# Altium schematic symbol library Schlib1.SchLib: 2 symbols
Pins are listed as number, name and electrical type; pins without a type are passive.

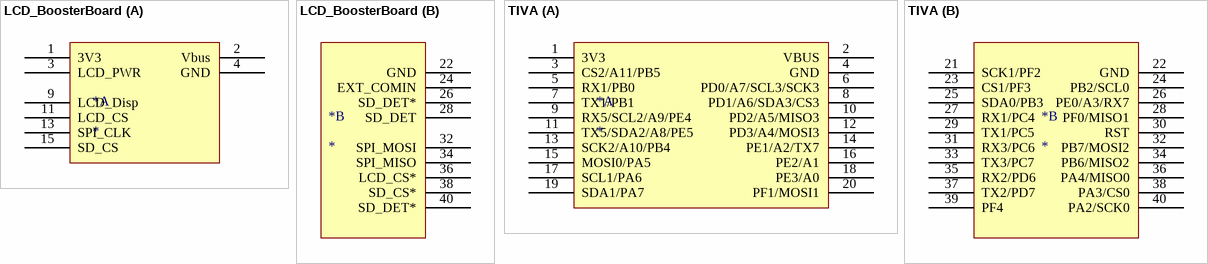
[diagram p0: symbols LCD_BoosterBoard to TIVA]

## LCD_BoosterBoard
designator *
footprint TIVA
part A pins: 1 3V3, 2 Vbus, 3 LCD_PWR, 4 GND, 9 LCD_Disp, 11 LCD_CS, 13 SPI_CLK, 15 SD_CS
part B pins: 22 GND, 24 EXT_COMIN, 26 SD_DET*, 28 SD_DET, 32 SPI_MOSI, 34 SPI_MISO, 36 LCD_CS*, 38 SD_CS*, 40 SD_DET*

## TIVA
designator *
footprint TIVA
part A pins: 1 3V3, 2 VBUS, 3 CS2/A11/PB5, 4 GND, 5 RX1/PB0, 6 PD0/A7/SCL3/SCK3, 7 TX1/PB1, 8 PD1/A6/SDA3/CS3, 9 RX5/SCL2/A9/PE4, 10 PD2/A5/MISO3, 11 TX5/SDA2/A8/PE5, 12 PD3/A4/MOSI3, 13 SCK2/A10/PB4, 14 PE1/A2/TX7, 15 MOSI0/PA5, 16 PE2/A1, 17 SCL1/PA6, 18 PE3/A0, 19 SDA1/PA7, 20 PF1/MOSI1
part B pins: 21 SCK1/PF2, 22 GND, 23 CS1/PF3, 24 PB2/SCL0, 25 SDA0/PB3, 26 PE0/A3/RX7, 27 RX1/PC4, 28 PF0/MISO1, 29 TX1/PC5, 30 RST, 31 RX3/PC6, 32 PB7/MOSI2, 33 TX3/PC7, 34 PB6/MISO2, 35 RX2/PD6, 36 PA4/MISO0, 37 TX2/PD7, 38 PA3/CS0, 39 PF4, 40 PA2/SCK0